# Altium footprint library HB100-buried.PcbLib: 1 footprints
Each footprint in its own frame and in the unit in brackets; x right, y up, seen from the top. Pads: shape width x height; smd on the part's side, far side on the other; paste and mask are expansions set on the pad; w line width, h text height; cw(c..) or ccw(c..) is an arc to the next point about the centre after c.
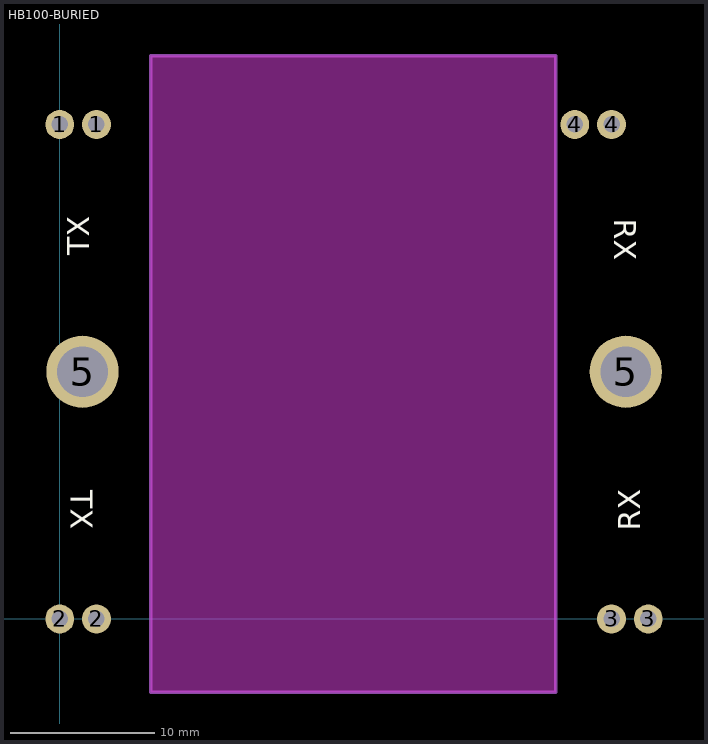
[diagram p0: the footprint, top view; thin cyan lines are the x and y axes]

## HB100-BURIED [mm]
pads (10):
  round 2 hole 1.143: 1(0,34.188) 1(2.54,34.188) 2(0,0) 2(2.54,0) 3(38.151,0) 3(40.691,0) 4(35.611,34.188) 4(38.151,34.188)
  round 5 hole 3.5: 5(1.575,17.094) 5(39.141,17.094)
Top Overlay:
  text "RX" at 38.354,27.686 h1.52
  text "TX" at 0.762,8.89 h1.52
  text "TX" at 2.032,25.146 h1.52
  text "RX" at 40.132,6.096 h1.52
Keep-Out Layer:
  board cut-out: 6.286,-5.066 6.286,38.934 34.286,38.934 34.286,-5.066
Mechanical 1:
  lines w0.254: 6.286,-5.066 34.286,-5.066 34.286,38.934 6.286,38.934 6.286,-5.066
  text "## CUT CUT CUT ## / ## CUT CUT CUT ## / ## CUT CUT CUT ## / ## CUT CUT CUT ## / ## CUT CUT CUT ## / ## CUT CUT CUT ## / ## CUT CUT CUT ## / ## CUT CUT CUT ## / ## CUT CUT CUT ## / ## CUT CUT CUT ## / ## CUT CUT CUT ## / ## CUT CUT CUT ## / ## CUT CUT CUT ## / ## CUT CUT CUT ## / ## CUT CUT CUT ## / ## CUT CUT CUT ## / ## CUT CUT CUT ## / ## CUT CUT CUT ##" at 7.366,-4.826 h1.52
3D body "HB_100.step": height 3, standoff -4.7, extent -3.023,-2.997 43.477,37.003